# EAGLE library part USB_UART_BRIDGE (library NFR)
USB to UART Bridge DigiKey <https://www.digikey.com/en/products/detail/silicon-labs/CP2102N-A02-GQFN28R/9863480>
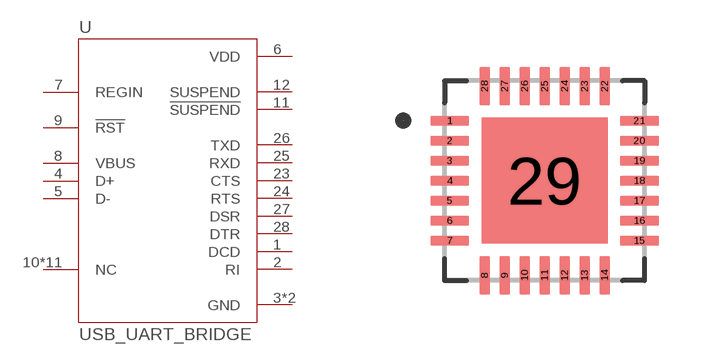
[diagram p2: symbol with the pads of QFN28; footprint QFN28]

Designator prefix U

## USB_UART_BRIDGE (DESCRIPTION: CP2102N USB 2.0 to UART (RS232) Bridge Interface Evaluation Board; MF: Silicon Labs; MP: CP2102; PACKAGE: WFQFN-20 Silicon Labs; PURCHASE-URL: https://pricing.snapeda.com/search/part/CP2102/?ref=eda)  [QFN28]
1  DCD  in
2  RI  in
3  GND  pwr
4  D+
5  D-
6  VDD  pwr
7  REGIN  in
8  VBUS  in
9  !RST
10  NC  pas
11  !SUSPEND  out
12  SUSPEND  out
13  NC  pas
14  NC  pas
15  NC  pas
16  NC  pas
17  NC  pas
18  NC  pas
19  NC  pas
20  NC  pas
21  NC  pas
22  NC  pas
23  CTS  in
24  RTS  out
25  RXD  in
26  TXD  out
27  DSR  in
28  DTR  out
29  GND  pwr

## Footprint QFN28 (pad centres in mm)
smd 0.97 x 0.26: 1 -2.37,1.5; 2 -2.37,1; 3 -2.37,0.5; 4 -2.37,0; 5 -2.37,-0.5; 6 -2.37,-1; 7 -2.37,-1.5; 15 2.37,-1.5; 16 2.37,-1; 17 2.37,-0.5; 18 2.37,0; 19 2.37,0.5; 20 2.37,1; 21 2.37,1.5
smd 0.26 x 0.97: 8 -1.5,-2.37; 9 -1,-2.37; 10 -0.5,-2.37; 11 0,-2.37; 12 0.5,-2.37; 13 1,-2.37; 14 1.5,-2.37; 22 1.5,2.37; 23 1,2.37; 24 0.5,2.37; 25 0,2.37; 26 -0.5,2.37; 27 -1,2.37; 28 -1.5,2.37
smd 3.15 x 3.15: 29 0,0